# Altium schematic symbol library ST DC-DC.SchLib: 1 symbol
Pins are listed as number, name and electrical type; pins without a type are passive.

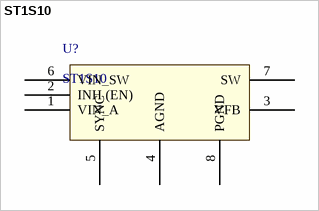
[diagram p0: symbol ST1S10]

## ST1S10
designator U?
3 A, 900 kHz, monolithic synchronous step-down regulator IC; Manufacturer: ST; Manufacturer ID: ST1S10PHR
footprint SOIC8 (SOIC, 8-Leads, Body 4,90x3,90mm, Pitch 1,27mm, IPC Medium Density)
pins: 1 VIN_A, 2 INH (EN), 3 VFB, 4 AGND, 5 SYNC, 6 VIN_SW, 7 SW, 8 PGND